# Altium footprint library Con_PcbLib.PcbLib: 98 footprints (part 1 of 7)
Each footprint in its own frame and in the unit in brackets; x right, y up, seen from the top. Pads: shape width x height; smd on the part's side, far side on the other; paste and mask are expansions set on the pad; w line width, h text height; cw(c..) or ccw(c..) is an arc to the next point about the centre after c.
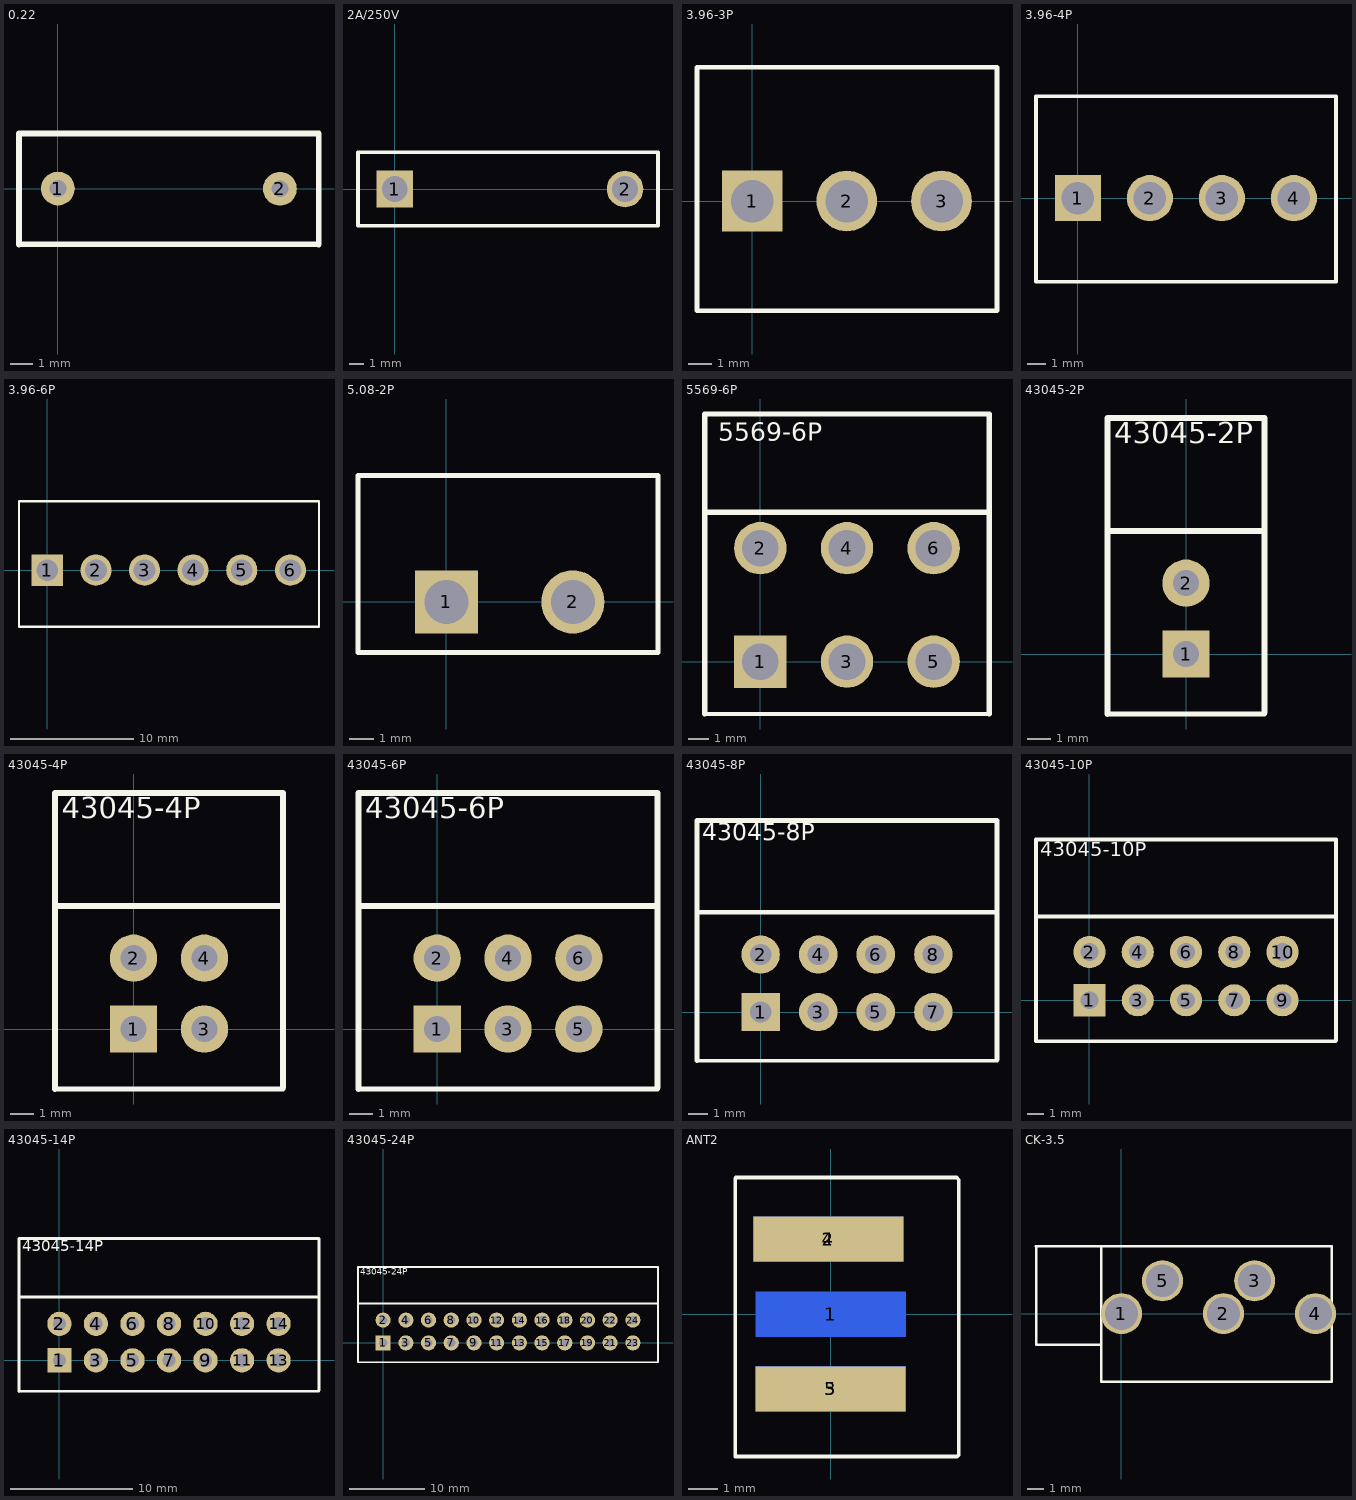
[diagram p0: the footprints below, top view; thin cyan lines are the x and y axes]

## 0.22 [mil]
pads (2):
  round 60 hole 30: 1(0,0) 2(393.7,-0.39)
Top Overlay:
  lines w10: -68.9,-99.21 -68.9,97.64 ; -68.9,-98.82 462.6,-98.82 ; -68.11,97.64 461.65,97.64 cw(c461.65,96.29) 462.6,97.24 462.6,-99.21

## 2A/250V [mil] "保险丝/交流使用"
pads (2):
  rect 100x100 hole 70: 1(0,0)
  round 100 hole 70: 2(629.92,0)
Top Overlay:
  lines w10: -100,-100 720,-100 720,100 -100,100 -100,-100

## 3.96-3P [mil]
pads (3):
  rect 100x100 hole 70: 1(0,0)
  round 100 hole 70: 2(155.91,0) 3(311.81,0)
Top Overlay:
  lines w7.87: -90.75,-180.71 403.07,-180.71 403.07,220.28 -90.75,220.28 -90.75,-180.71

## 3.96-4P [mil]
pads (4):
  rect 100x100 hole 70: 1(0,0)
  round 100 hole 70: 2(155.91,0) 3(311.81,0) 4(467.72,0)
Top Overlay:
  lines w7.87: -90.75,-180.71 -90.75,220.28 558.98,220.28 558.98,-180.71 -90.75,-180.71

## 3.96-6P [mil]
pads (6):
  rect 100x100 hole 70: 1(0,0)
  round 100 hole 70: 2(155.91,0) 3(311.81,0) 4(467.72,0) 5(623.62,0) 6(779.53,0)
Top Overlay:
  lines w7.87: -90.75,-180.71 -90.75,220.28 871.26,220.28 871.26,-180.71 -90.75,-180.71

## 5.08-2P [mil] "插拔端子"
pads (2):
  rect 100x100 hole 70: 1(0,0)
  round 100 hole 70: 2(200,0)
Top Overlay:
  lines w7.87: -140,-80 -140,200 332.44,200 ; -137.8,-80 334.65,-80 334.65,200

## 5569-6P [mm]
height 20
pads (6):
  rect 2.54x2.54 hole 1.778: 1(0,0)
  round 2.54 hole 1.778: 2(0,5.5) 3(4.2,0) 4(4.2,5.5) 5(8.4,0) 6(8.4,5.5)
Top Overlay:
  lines w0.2: -2.7,-2.54 11.1,-2.54
  lines w0.254: -2.7,-2.54 -2.7,12 11.1,12 11.1,-2.54 ; -2.7,7.239 10.973,7.239
  text "5569-6P" at -2.032,10.414 h1.52

## 43045-2P [mm]
height 25
pads (2):
  rect 2x2 hole 1.1: 1(0,0)
  round 2 hole 1.1: 2(0,3)
Top Overlay:
  lines w0.2: -3.325,-2.54 3.325,-2.54
  lines w0.254: -3.325,-2.54 -3.325,10 3.325,10 3.325,-2.475 ; -3.325,5.207 3.325,5.207
  text "43045-2P" at -3.048,8.636 h1.52

## 43045-4P [mm]
height 25
pads (4):
  rect 2x2 hole 1.1: 1(0,0)
  round 2 hole 1.1: 2(0,3) 3(3,0) 4(3,3)
Top Overlay:
  lines w0.2: -3.325,-2.54 6.325,-2.54
  lines w0.254: -3.325,-2.54 -3.325,10 6.325,10 6.325,-2.475 ; -3.325,5.207 6.325,5.207
  text "43045-4P" at -3.048,8.636 h1.52

## 43045-6P [mm]
height 25
pads (6):
  rect 2x2 hole 1.1: 1(0,0)
  round 2 hole 1.1: 2(0,3) 3(3,0) 4(3,3) 5(6,0) 6(6,3)
Top Overlay:
  lines w0.2: -3.325,-2.54 9.325,-2.54
  lines w0.254: -3.325,-2.54 -3.325,10 9.325,10 9.325,-2.475 ; -3.325,5.207 9.325,5.207
  text "43045-6P" at -3.048,8.636 h1.52

## 43045-8P [mm]
height 25
pads (8):
  rect 2x2 hole 1.1: 1(0,0)
  round 2 hole 1.1: 2(0,3) 3(3,0) 4(3,3) 5(6,0) 6(6,3) 7(9,0) 8(9,3)
Top Overlay:
  lines w0.2: -3.325,-2.54 12.325,-2.54
  lines w0.254: -3.325,-2.54 -3.325,10 12.325,10 12.325,-2.475 ; -3.325,5.207 12.325,5.207
  text "43045-8P" at -3.048,8.636 h1.52

## 43045-10P [mm]
height 25
pads (10):
  rect 2x2 hole 1.1: 1(0,0)
  round 2 hole 1.1: 2(0,3) 3(3,0) 4(3,3) 5(6,0) 6(6,3) 7(9,0) 8(9,3) 9(12,0) 10(12,3)
Top Overlay:
  lines w0.2: -3.325,-2.54 15.325,-2.54
  lines w0.254: -3.325,-2.54 -3.325,10 15.325,10 15.325,-2.475 ; -3.325,5.207 15.325,5.207
  text "43045-10P" at -3.048,8.636 h1.52

## 43045-14P [mm]
height 25
pads (14):
  rect 2x2 hole 1.1: 1(0,0)
  round 2 hole 1.1: 2(0,3) 3(3,0) 4(3,3) 5(6,0) 6(6,3) 7(9,0) 8(9,3) 9(12,0) 10(12,3) 11(15,0) 12(15,3) 13(18,0) 14(18,3)
Top Overlay:
  lines w0.2: -3.325,-2.54 21.325,-2.54
  lines w0.254: -3.325,-2.54 -3.325,10 21.325,10 21.325,-2.475 ; -3.325,5.207 21.325,5.207
  text "43045-14P" at -3.048,8.636 h1.52

## 43045-24P [mm]
height 25
pads (24):
  rect 2x2 hole 1.1: 1(0,0)
  round 2 hole 1.1: 2(0,3) 3(3,0) 4(3,3) 5(6,0) 6(6,3) 7(9,0) 8(9,3) 9(12,0) 10(12,3) 11(15,0) 12(15,3) 13(18,0) 14(18,3) 15(21,0) 16(21,3) 17(24,0) 18(24,3) 19(27,0) 20(27,3) 21(30,0) 22(30,3) 23(33,0) 24(33,3)
Top Overlay:
  lines w0.2: -3.325,-2.54 36.325,-2.54
  lines w0.254: -3.325,-2.54 -3.325,10 36.325,10 36.325,-2.475 ; -3.325,5.207 36.325,5.207
  text "43045-24P" at -3.048,8.636 h1.52

## ANT2 [mil]
pads (5):
  rect 200x60 smd far side: 1(0,0) 4(-3,100) 5(0,-100)
  rect 200x60 smd: 2(-3,100) 3(0,-100)
Top Overlay:
  lines w5: 171,-186 171,-157 ; 171,-183 171,-188 169,-190 -127,-190 -127,-159 -127,181 -126,182 168,182 171,179 171,-159

## CK-3.5 [mm]
pads (5):
  round 2.5 hole 2: 1(0,0) 2(6.2,0) 3(8.1,2) 4(11.8,0) 5(2.5,2)
Top Overlay:
  lines w0.152: -5.2,4.1 -1.2,4.1 12.8,4.1 ; -5.182,4.1 -5.182,-1.9 -1.3,-1.9 -1.295,-1.905 ; -1.219,-4.14 12.8,-4.14 12.8,4.076 12.776,4.1 ; -1.219,-4.1 -1.219,4.1